# Altium footprint library RES.PcbLib: 33 footprints (part 1 of 3)
Each footprint in its own frame and in the unit in brackets; x right, y up, seen from the top. Pads: shape width x height; smd on the part's side, far side on the other; paste and mask are expansions set on the pad; w line width, h text height; cw(c..) or ccw(c..) is an arc to the next point about the centre after c.
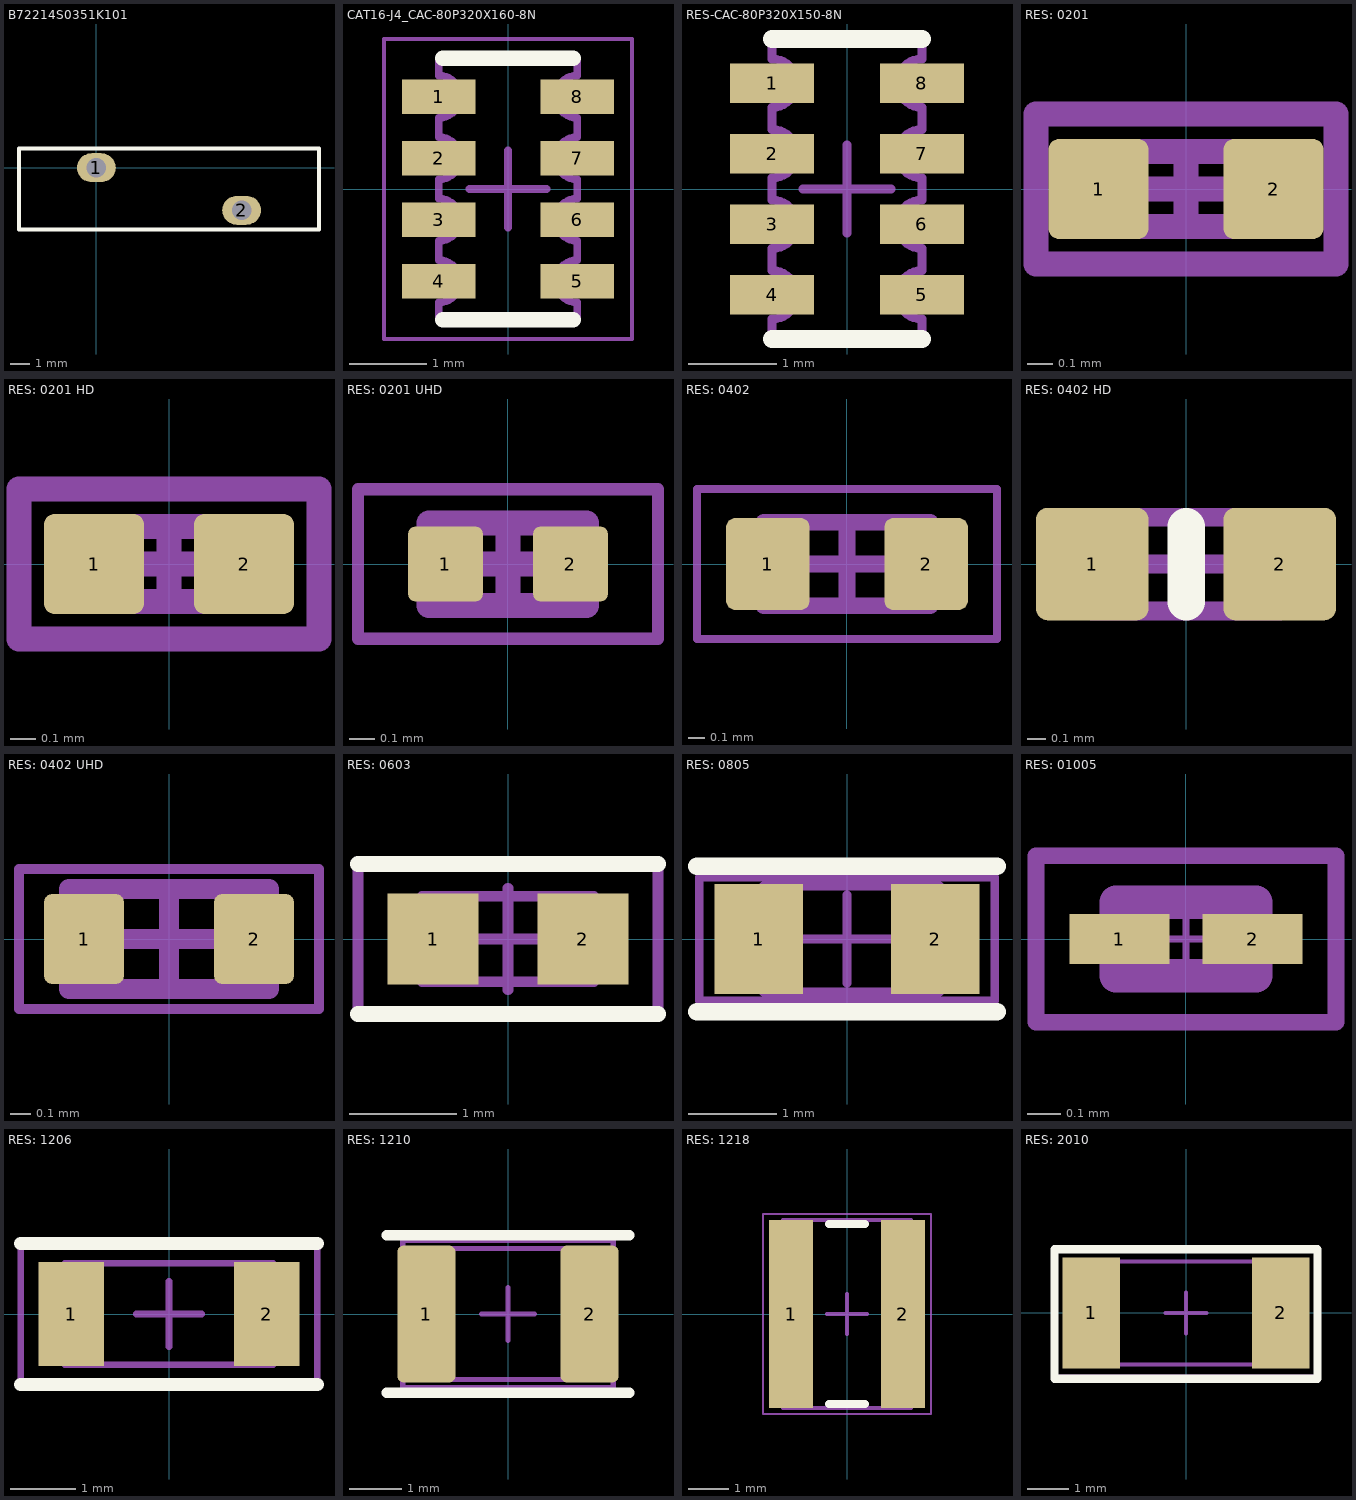
[diagram p0: the footprints below, top view; thin cyan lines are the x and y axes]

## B72214S0351K101 [mm]
pads (2):
  oval 2x1.5 hole 1: 1(0,0) 2(7.5,-2.2)
Top Overlay:
  lines w0.2: -4,-3.2 11.5,-3.2 11.5,1 -4,1 -4,-3.2
Top Courtyard (Mech6):
  lines w0.1: -4,-3.2 -4,1 11.5,1 11.5,-3.2 -4,-3.2
3D body "B72214S0351K101.stp": height 19.5, standoff -20.18, extent -3.75,-2.9 11.25,0.7

## CAT16-J4_CAC-80P320X160-8N [mm] "Chip Array, Concave, 8-Leads, Pitch 0.80mm,  Body 3.20x1.60mm,  IPC Medium Density"
height 0.6
pads (8):
  rect 0.95x0.45 smd: 1(-0.9,1.2) 2(-0.9,0.4) 3(-0.9,-0.4) 4(-0.9,-1.2) 5(0.9,-1.2) 6(0.9,-0.4) 7(0.9,0.4) 8(0.9,1.2)
Top Overlay:
  lines w0.2: -0.85,-1.7 0.85,-1.7 ; -0.85,1.7 0.85,1.7
  text "." at -1.605,1.889 h3
Top 3D Body:
  lines w0.1: -0.9,-1.7 0.9,-1.7 0.9,-1.475 cw(c0.9,-1.2) 0.9,-0.925 0.9,-0.675 cw(c0.9,-0.4) 0.9,-0.125 0.9,0.125 cw(c0.9,0.4) 0.9,0.675 0.9,0.925 cw(c0.9,1.2) 0.9,1.475 0.9,1.7 -0.9,1.7 -0.9,1.475 cw(c-0.9,1.2) -0.9,0.925 -0.9,0.675 cw(c-0.9,0.4) -0.9,0.125 -0.9,-0.125 cw(c-0.9,-0.4) -0.9,-0.675 -0.9,-0.925 cw(c-0.9,-1.2) -0.9,-1.475 -0.9,-1.7
Mechanical 15:
  lines w0.05: -1.61,-1.95 1.61,-1.95 1.61,1.95 -1.61,1.95 -1.61,-1.95
  lines w0.1: -0.5,0 0.5,0 ; 0,-0.5 0,0.5
3D body "CAT16-J4_CAC-80P320X160-8N.step": height 0.6, standoff 0, extent -0.95,-1.7 0.95,1.7

## RES-CAC-80P320X150-8N [mm] "Chip Array, Concave, 8-Leads, Pitch 0.80mm,  Body 3.20x1.50mm,  IPC Medium Density"
height 0.6
pads (8):
  rect 0.95x0.45 smd: 1(-0.85,1.2) 2(-0.85,0.4) 3(-0.85,-0.4) 4(-0.85,-1.2) 5(0.85,-1.2) 6(0.85,-0.4) 7(0.85,0.4) 8(0.85,1.2)
Top Overlay:
  lines w0.2: -0.85,-1.7 0.85,-1.7 ; -0.85,1.7 0.85,1.7
Top 3D Body:
  lines w0.1: -0.85,-1.7 -0.85,-1.475 ccw(c-0.85,-1.2) -0.85,-0.925 -0.85,-0.675 ccw(c-0.85,-0.4) -0.85,-0.125 -0.85,0.125 ccw(c-0.85,0.4) -0.85,0.675 -0.85,0.925 ccw(c-0.85,1.2) -0.85,1.475 -0.85,1.7 0.85,1.7 0.85,1.475 ccw(c0.85,1.2) 0.85,0.925 0.85,0.675 ccw(c0.85,0.4) 0.85,0.125 0.85,-0.125 ccw(c0.85,-0.4) 0.85,-0.675 0.85,-0.925 ccw(c0.85,-1.2) 0.85,-1.475 0.85,-1.7 -0.85,-1.7
Bottom 3D Body:
  lines w0.1: -0.5,0 0.5,0 ; 0,-0.5 0,0.5
3D body "CAC-80P320X150-8N.step": height 0.6, standoff 0, extent -0.9,-1.7 0.9,1.7

## RES: 0201 [mm]
height 0.23
pads (2):
  rrect20% 0.4x0.4 smd: 1(-0.35,0) 2(0.35,0)
Mechanical 1:
  lines w0.1: -0.3,-0.15 -0.3,0.15 0.3,0.15 0.3,-0.15 -0.3,-0.15
Mechanical 15:
  lines w0.1: -0.15,0 0.15,0 ; 0,-0.15 0,0.15 ; -0.6,-0.3 -0.6,0.3 0.6,0.3 0.6,-0.3 -0.6,-0.3
3D body "0201.SLDPRT": height 0.25, standoff 0, extent -0.3,-0.162 0.3,0.162

## RES: 0201 HD [mm]
height 0.23
pads (2):
  rrect20% 0.4x0.4 smd: 1(-0.3,0) 2(0.3,0)
Mechanical 1:
  lines w0.1: -0.3,-0.15 0.3,-0.15 0.3,0.15 -0.3,0.15 -0.3,-0.15
Mechanical 15:
  lines w0.1: -0.15,0 0.15,0 ; 0,-0.15 0,0.15 ; -0.6,-0.3 0.6,-0.3 0.6,0.3 -0.6,0.3 -0.6,-0.3
3D body "0201.SLDPRT": height 0.25, standoff 0, extent -0.3,-0.162 0.3,0.162

## RES: 0201 UHD [mm] "Chip Capacitor, 2-Leads, Body 0.62x0.32mm, IPC High Density"
height 0.33
pads (2):
  rrect20% 0.3x0.3 smd: 1(-0.25,0) 2(0.25,0)
Top Courtyard (Mech6):
  lines w0.05: -0.6,-0.3 0.6,-0.3 0.6,0.3 -0.6,0.3 -0.6,-0.3
  lines w0.1: -0.165,0 0.165,0 ; 0,-0.165 0,0.165
Top Assembly:
  lines w0.1: -0.315,-0.165 0.315,-0.165 0.315,0.165 -0.315,0.165 -0.315,-0.165
3D body: height 0.33, standoff 0, extent 0.165,-0.165 0.315,0.165
3D body: height 0.33, standoff 0, extent -0.315,-0.165 -0.165,0.165
3D body: height 0.33, standoff 0, extent -0.165,-0.165 0.165,0.165

## RES: 0402 [mm]
height 0.4
pads (2):
  rrect20% 0.5x0.55 smd: 1(-0.475,0) 2(0.475,0)
Top Courtyard (Mech6):
  lines w0.05: -0.9,-0.45 -0.9,0.45 0.9,0.45 0.9,-0.45 -0.9,-0.45
  lines w0.1: -0.25,0 0.25,0 ; 0,-0.25 0,0.25
Top 3D Body:
  lines w0.1: -0.5,-0.25 -0.5,0.25 0.5,0.25 0.5,-0.25 -0.5,-0.25
3D body: height 0.4, standoff 0, extent -0.25,-0.25 0.25,0.25
3D body: height 0.4, standoff 0, extent -0.5,-0.25 -0.25,0.25
3D body: height 0.4, standoff 0, extent 0.25,-0.25 0.5,0.25

## RES: 0402 HD [mm]
height 0.35
pads (2):
  rrect20% 0.6x0.6 smd: 1(-0.5,0) 2(0.5,0)
Top Overlay:
  lines w0.2: 0,-0.2 0,0.2
Mechanical 1:
  lines w0.1: -0.5,-0.25 -0.5,0.25 0.5,0.25 0.5,-0.25 -0.5,-0.25
Mechanical 15:
  lines w0.1: -0.25,0 0.25,0 ; 0,-0.25 0,0.25
3D body "0402.SLDPRT": height 0.36, standoff -0.01, extent -0.5,-0.262 0.5,0.262

## RES: 0402 UHD [mm] "Chip Resistor, 2-Leads, Body 1.00x0.50mm, IPC High Density C1005X04L"
height 0.4
pads (2):
  rrect20% 0.4x0.45 smd: 1(-0.425,0) 2(0.425,0)
Top Courtyard (Mech6):
  lines w0.05: -0.75,-0.35 -0.75,0.35 0.75,0.35 0.75,-0.35 -0.75,-0.35
  lines w0.1: -0.25,0 0.25,0 ; 0,-0.25 0,0.25
Top 3D Body:
  lines w0.1: -0.5,-0.25 -0.5,0.25 0.5,0.25 0.5,-0.25 -0.5,-0.25
3D body: height 0.4, standoff 0, extent -0.25,-0.25 0.25,0.25
3D body: height 0.4, standoff 0, extent -0.5,-0.25 -0.25,0.25
3D body: height 0.4, standoff 0, extent 0.25,-0.25 0.5,0.25

## RES: 0603 [mm]
height 0.45
pads (2):
  rect 0.85x0.85 smd: 1(-0.7,0) 2(0.7,0)
Top Overlay:
  lines w0.15: -1.4,-0.7 1.4,-0.7 ; -1.4,0.7 1.4,0.7
Mechanical 1:
  lines w0.1: -0.8,-0.4 0.8,-0.4 0.8,0.4 -0.8,0.4 -0.8,-0.4
Top Courtyard (Mech6):
  lines w0.1: -1.4,-0.7 -1.4,0.7 1.4,0.7 1.4,-0.7 -1.4,-0.7
Mechanical 15:
  lines w0.1: -0.475,0 0.475,0 ; 0,-0.475 0,0.475
3D body "0603.SLDPRT": height 0.46, standoff -0.01, extent -0.8,-0.413 0.8,0.413

## RES: 0805 [mm]
height 0.45
pads (2):
  rect 1x1.25 smd: 1(-1,0) 2(1,0)
Top Overlay:
  lines w0.2: -1.7,-0.825 1.7,-0.825 ; -1.7,0.825 1.7,0.825
Mechanical 1:
  lines w0.1: -0.949,-0.6 -0.949,0.6 1.05,0.6 1.05,-0.6 -0.949,-0.6
Top Courtyard (Mech6):
  lines w0.1: -1.675,-0.7 -1.675,0.7 1.675,0.7 1.675,-0.7 -1.675,-0.7
Mechanical 15:
  lines w0.1: -0.5,0 0.5,0 ; 0,-0.5 0,0.5
3D body "0805.SLDPRT": height 0.61, standoff -0.01, extent -1,-0.637 1,0.637

## RES: 01005 [mm] "Chip Resistor, 2-Leads, Body 0.40x0.20mm, IPC High Density"
height 0.15
pads (2):
  rect 0.3x0.15 smd: 1(-0.2,0) 2(0.2,0)
Mechanical 15:
  lines w0.02: -0.05,0 0.05,0 ; 0,-0.11 0,0.11
  lines w0.05: -0.45,-0.25 0.45,-0.25 0.45,0.25 -0.45,0.25 -0.45,-0.25
Mechanical 16:
  lines w0.1: -0.21,-0.11 -0.21,0.11 0.21,0.11 0.21,-0.11 -0.21,-0.11
3D body "0100.step": height 0.15, standoff 0, extent -0.21,-0.11 0.21,0.11

## RES: 1206 [mm]
height 0.6
pads (2):
  rect 1x1.6 smd: 1(-1.5,0) 2(1.5,0)
Top Overlay:
  lines w0.2: -2.275,-1.08 2.275,-1.08 ; -2.275,1.08 2.275,1.08
Mechanical 1:
  lines w0.1: -1.6,-0.775 -1.6,0.775 1.6,0.775 1.6,-0.775 -1.6,-0.775
Mechanical 15:
  lines w0.1: -0.5,0 0.5,0 ; 0,-0.5 0,0.5 ; -2.275,-1.075 -2.275,1.075 2.275,1.075 2.275,-1.075 -2.275,-1.075
3D body "1206.SLDPRT": height 0.61, standoff -0.01, extent -1.6,-0.813 1.6,0.813

## RES: 1210 [mm]
pads (2):
  rrect20% 1.1x2.6 smd: 1(-1.55,0) 2(1.55,0)
Top Overlay:
  lines w0.2: -2.3,-1.5 2.3,-1.5 ; -2.3,1.5 2.3,1.5
Mechanical 1:
  lines w0.1: -2,-1.244 2,-1.244 2,1.245 -2,1.245 -2,-1.244
Mechanical 15:
  lines w0.1: -0.5,0 0.5,0 ; 0,-0.5 0,0.5 ; -2,-1.4 -2,1.4 2,1.4 2,-1.4 -2,-1.4
3D body "RESC3225X60N.step": height 0.6, standoff 0, extent -1.6,-1.25 1.6,1.25

## RES: 1218 [mm] "Chip Resistor, 2-Leads, Body 3.10x4.60mm, IPC Medium Density"
height 0.65
pads (2):
  rect 1.1x4.7 smd: 1(-1.4,0) 2(1.4,0)
Top Overlay:
  lines w0.2: -0.45,-2.25 0.45,-2.25 ; -0.45,2.25 0.45,2.25
Top 3D Body:
  lines w0.1: -1.6,-2.35 1.6,-2.35 1.6,2.35 -1.6,2.35 -1.6,-2.35
Mechanical 15:
  lines w0.05: -2.1,-2.5 -2.1,2.5 2.1,2.5 2.1,-2.5 -2.1,-2.5
  lines w0.1: -0.5,0 0.5,0 ; 0,-0.5 0,0.5
3D body "1218a.step": height 0.65, standoff 0, extent -1.6,-2.35 1.6,2.35

## RES: 2010 [mm]
height 0.55
pads (2):
  rect 1.4x2.7 smd: 1(-2.3,0) 2(2.3,0)
Top Overlay:
  lines w0.2: -3.2,-1.6 3.2,-1.6 3.2,1.55 -3.2,1.55 -3.2,-1.6
Mechanical 1:
  lines w0.1: -2.5,-1.25 2.5,-1.25 2.5,1.25 -2.5,1.25 -2.5,-1.25
Mechanical 15:
  lines w0.1: -0.5,0 0.5,0 ; 0,-0.5 0,0.5 ; -3.2,-1.55 3.2,-1.55 3.2,1.55 -3.2,1.55 -3.2,-1.55
3D body "User Library-R_2010.STEP": height 0.6, standoff 0, extent -2.5,-1.25 2.5,1.25